# Altium schematic symbol library RN4020 MODULE-24.SchLib: 1 symbol
Pins are listed as number, name and electrical type; pins without a type are passive.

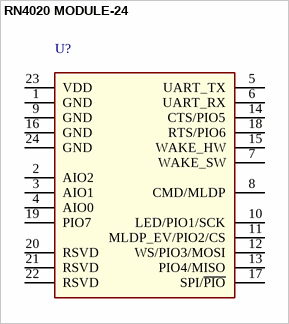
[diagram p0: symbol RN4020 MODULE-24]

## RN4020 MODULE-24
designator U?  (value not drawn)
pins: 1 GND, 2 AIO2, 3 AIO1, 4 AIO0, 5 UART_TX, 6 UART_RX, 7 WAKE_SW, 8 CMD/MLDP, 9 GND, 10 LED/PIO1/SCK, 11 MLDP_EV/PIO2/CS, 12 WS/PIO3/MOSI, 13 PIO4/MISO, 14 CTS/PIO5, 15 WAKE_HW, 16 GND, 17 SPI/~{PIO}, 18 RTS/PIO6, 19 PIO7, 20 RSVD, 21 RSVD, 22 RSVD, 23 VDD, 24 GND
1 alternate drawing of the same symbol